# EAGLE library part C0802 (library badge)
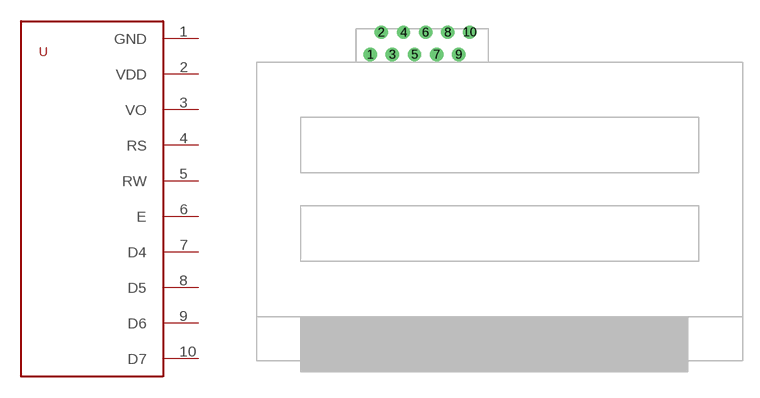
[diagram p0: symbol with the pads of C0802; footprint C0802]

Designator prefix -

## C0802  [C0802]
1  GND  pwr
2  VDD  pwr
3  VO  in
4  RS  in
5  RW  in
6  E  in
7  D4
8  D5
9  D6
10  D7

## Footprint C0802 (pad centres in mm)
drill 0.7: 1 -11.7,14.7; 2 -10.7,16.7; 3 -9.7,14.7; 4 -8.7,16.7; 5 -7.7,14.7; 6 -6.7,16.7; 7 -5.7,14.7; 8 -4.7,16.7; 9 -3.7,14.7; 10 -2.7,16.7